# Altium schematic symbol library MOTO.SchLib: 1 symbol
Pins are listed as number, name and electrical type; pins without a type are passive.

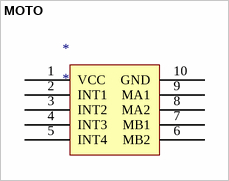
[diagram p0: symbol MOTO]

## MOTO
designator *
pins: 1 VCC, 2 INT1, 3 INT2, 4 INT3, 5 INT4, 6 MB2, 7 MB1, 8 MA2, 9 MA1, 10 GND